# EAGLE library part NHD-12864MZ-FSW-GBW-L (library pmodio)
Newhaven Display 128x64 Graphical LCD
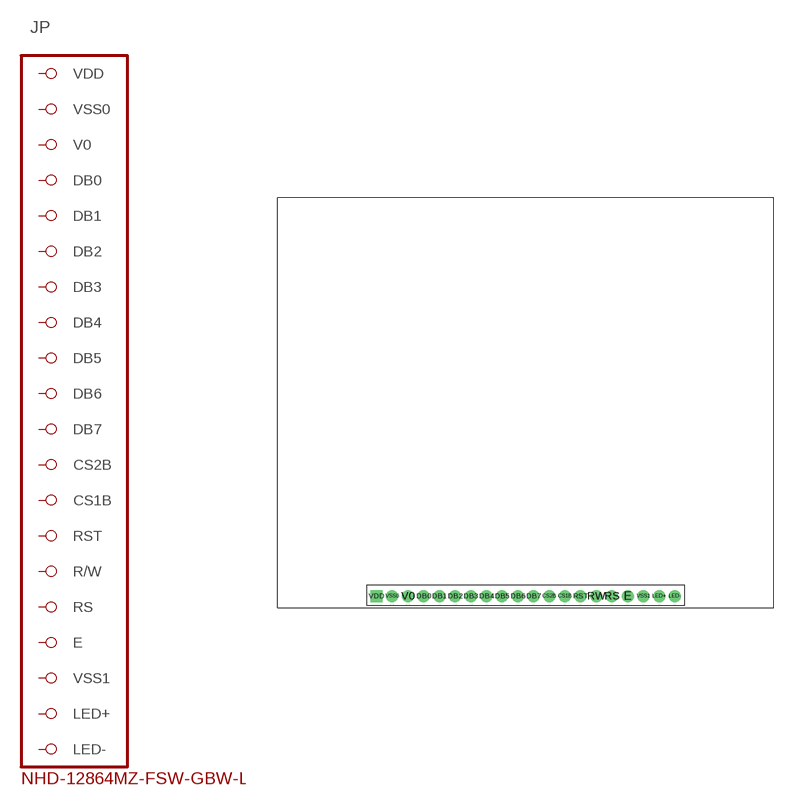
[diagram p0: symbol with the pads of NHD-12864MZ-FSW-GBW-L; footprint NHD-12864MZ-FSW-GBW-L]

Designator prefix JP

## NHD-12864MZ-FSW-GBW-L1X20_2MM  [NHD-12864MZ-FSW-GBW-L]
CS1B  CS1B
CS2B  CS2B
DB0  DB0
DB1  DB1
DB2  DB2
DB3  DB3
DB4  DB4
DB5  DB5
DB6  DB6
DB7  DB7
E  E
LED+  LED+
LED-  LED-
RS  RS
RST  RST
RW  R/W
V0  V0
VDD  VDD
VSS0  VSS0
VSS1  VSS1

## Footprint NHD-12864MZ-FSW-GBW-L (pad centres in mm)
PIN HEADER
drill 1.016: CS1B 5,-24.6; CS2B 3,-24.6; DB0 -13,-24.6; DB1 -11,-24.6; DB2 -9,-24.6; DB3 -7,-24.6; DB4 -5,-24.6; DB5 -3,-24.6; DB6 -1,-24.6; DB7 1,-24.6; E 13,-24.6; LED+ 17,-24.6; LED- 19,-24.6; RS 11,-24.6; RST 7,-24.6; RW 9,-24.6; V0 -15,-24.6; VSS0 -17,-24.6; VSS1 15,-24.6
drill 1.016 square: VDD -19,-24.6